# EAGLE library part SKSGACE010 (library lz-shield)
ALPS SKSGACE010 technical information Datasheet <http://www.alps.com/prod/info/J/HTML/Tact/SurfaceMount/SKSG/SKSGACE010.html> distributer site chip1stop <http://www.chip1stop.com/dispDetail.do?partId=ALPS-0006455> Mouser <http://www.mouser.jp/ProductDetail/ALPS/SKSGACE010/?qs=Ptl%2fSkKmb3BEFq%252bG855%2fog==>
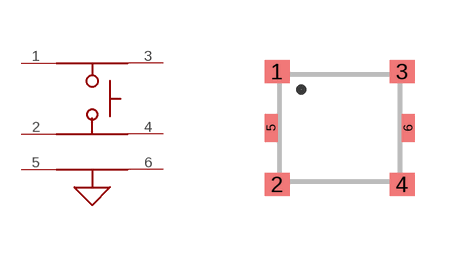
[diagram p14: symbol with the pads of SKSGACE010; footprint SKSGACE010]

Designator prefix SW

## SKSGACE010  [SKSGACE010]
1  1
2  2
3  3
4  4
5  5  pwr
6  6  pwr

## Footprint SKSGACE010 (pad centres in mm)
smd 0.625 x 0.575: 1 -1.562,1.413; 2 -1.562,-1.413; 3 1.562,1.413; 4 1.562,-1.413
smd 0.325 x 0.7: 5 -1.712,0; 6 1.712,0